# Altium schematic symbol library 691137710002.SchLib: 2 symbols
Pins are listed as number, name and electrical type; pins without a type are passive.

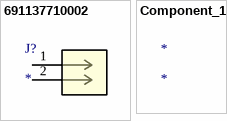
[diagram p0: symbols 691137710002 to Component_1]

## 691137710002
designator J?
No Description Available; Mfr_Name: Wurth Electronics; RefDes: RefDes; Type: Type
footprint CONN2_710002_WRE
pins: 1, 2

## Component_1
designator *